# Altium footprint library FQD.PcbLib: 1 footprints
Each footprint in its own frame and in the unit in brackets; x right, y up, seen from the top. Pads: shape width x height; smd on the part's side, far side on the other; paste and mask are expansions set on the pad; w line width, h text height; cw(c..) or ccw(c..) is an arc to the next point about the centre after c.
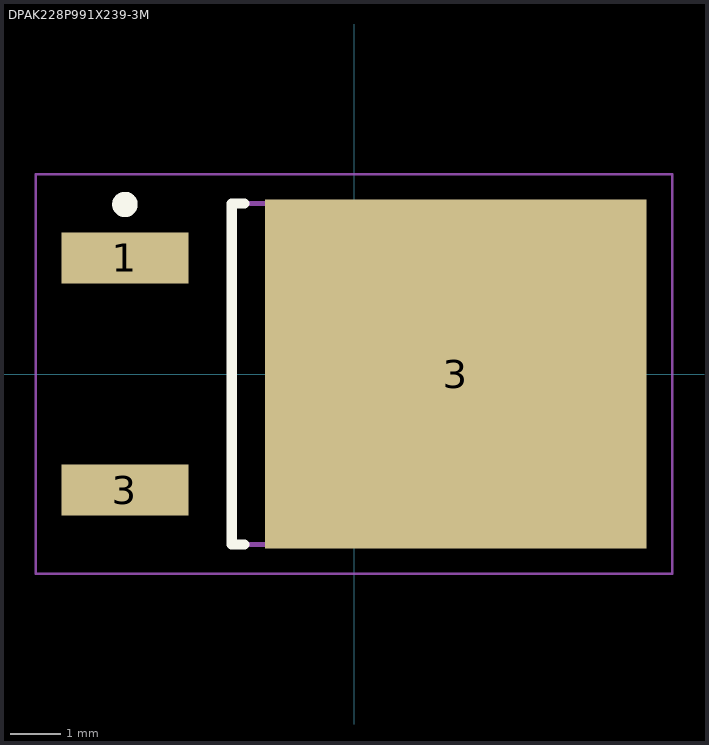
[diagram p0: the footprint, top view; thin cyan lines are the x and y axes]

## DPAK228P991X239-3M [mm] "D-PAK, 3-Pads, Body 6.21x6.72mm (max), IPC Low Density"
height 2.39
pads (3):
  rect 2.5x1 smd: 1(-4.5,2.28) 3(-4.5,-2.28)
  rect 7.5x6.85 smd: 3(2,0)
Top Overlay:
  circle w0.25: c-4.5,3.33 r0.125
  lines w0.2: -2.15,-3.35 -2.4,-3.35 -2.4,3.35 -2.15,3.35
Mechanical 13:
  lines w0.1: -2.4,-3.35 3.82,-3.35 3.82,3.35 -2.4,3.35 -2.4,-3.35
Mechanical 15:
  lines w0.05: -6.25,-3.925 6.25,-3.925 6.25,3.925 -6.25,3.925 -6.25,-3.925
  lines w0.1: -0.5,0 0.5,0 ; 0,-0.5 0,0.5
3D body: height 2.39, standoff 0, extent -2.4,-3.35 3.82,3.35